# Altium integrated library Biblioteca Trincabotz (1).IntLib: 116 symbols
Pins are listed as number, name and electrical type; pins without a type are passive.

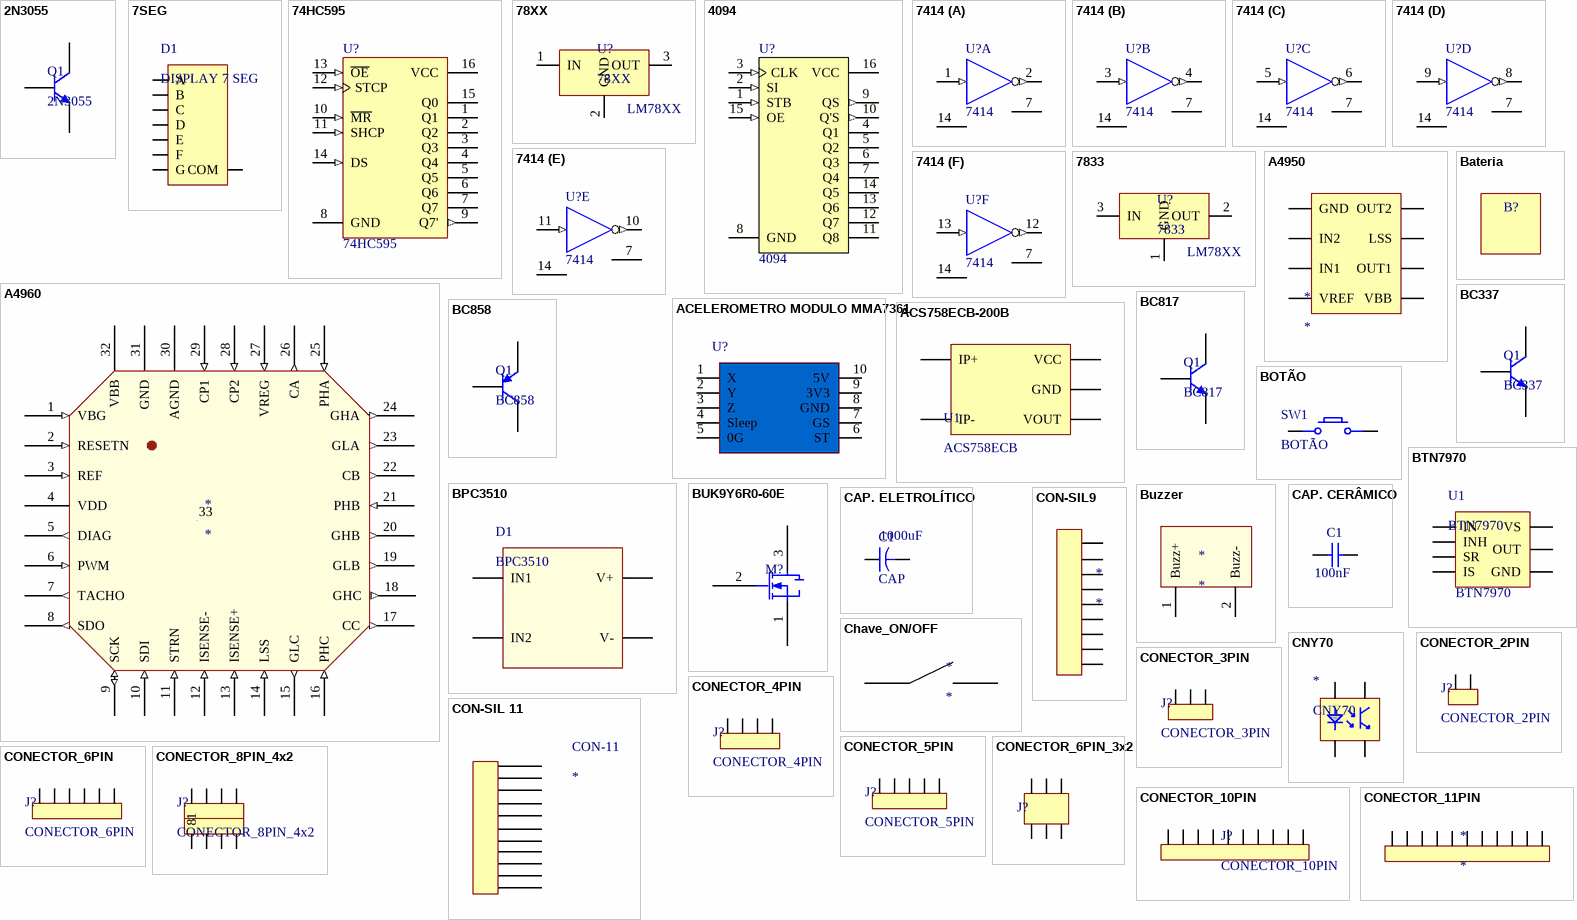
[diagram p0: symbols 2N3055 to CONECTOR_11PIN]

## 2N3055
designator Q1
Transistor NPN de potência
footprint TO-3 (Oval Flange Mount with (2) Offset Leads; Pin Spacing 10.92 mm; Lead Dia. 1.15 mm (max))
footprint TO-3_MOD
pins: 1 B, 2 E, 3 C

## 7SEG
designator D1, comment DISPLAY 7 SEG
Display de sete seguimentos
pins: 1 A, 2 B, 3 C, 4 D, 5 E, 6 F, 7 G, 8 COM

## 74HC595
designator U?
8 Bit Shift Register with Output Latches (3 STATE); Published: 8-Jun-2000; LatestRevisionDate: 06-Jun-2005; LatestRevisionNote: Stylized 3D Model Added.; DatasheetVersion: Apr-1993; PackageVersion: Apr-1996; PackageReference: DIP16; Publisher: Altium Limited; PackageDescription: DIP; 16 Leads; Row Spacing 7.62 mm; Pitch 2.54 mm; ComponentLink1Description: Manufacturer Link; ComponentLink1URL: http://www.st.com/; ComponentLink2Description: Datasheet; ComponentLink2URL: http://www.st.com/stonline/products/literature/ds/1989/m74hc595.pdf
footprint DIP16
pins: 1 Q1 (hiz), 2 Q2 (hiz), 3 Q3 (hiz), 4 Q4 (hiz), 5 Q5 (hiz), 6 Q6 (hiz), 7 Q7 (hiz), 8 GND (power), 9 Q7' (out), 10 ~{MR} (in), 11 SHCP (in), 12 STCP (in), 13 ~{OE} (in), 14 DS (in), 15 Q0 (hiz), 16 VCC (power)

## 78XX
designator U?
Regulador linear 1A
footprint TO220
footprint TO92
footprint SOT-223 (SOT223, 4-Leads, Body 6,50x7,00mm (avg), Pitch 2,30mm, IPC Medium Density)
footprint D2PAK-3
footprint DPAK
footprint SOT89 (SOT89, 3-Leads, Body 4.6x2.6 mm, Pitch 1.5mm, Lead Span 4.1mm, IPC Medium Density)
pins: 1 IN, 2 GND, 3 OUT
text: LM78XX

## 4094
designator U?
8 Bit SIPO Shift Latch Register (3-State)
footprint DIP16
pins: 1 STB (in), 2 SI (in), 3 CLK (in), 4 Q1 (hiz), 5 Q2 (hiz), 6 Q3 (hiz), 7 Q4 (hiz), 8 GND (power), 9 QS (out), 10 Q'S (out), 11 Q8 (hiz), 12 Q7 (hiz), 13 Q6 (hiz), 14 Q5 (hiz), 15 OE (in), 16 VCC (power)

## 7414
designator U?
Hex Schmitt-Trigger Inverter
footprint DIP14
pins on every part: 7 GND (power) hidden to GND, 14 VCC (power) hidden to VCC
part A pins: 1 A (in), 2 Y (out)
part B pins: 3 A (in), 4 Y (out)
part C pins: 5 A (in), 6 Y (out)
part D pins: 8 Y (out), 9 A (in)
part E pins: 10 Y (out), 11 A (in)
part F pins: 12 Y (out), 13 A (in)

## 7833
designator U?
Regulador linear 1A
footprint TO220
footprint TO92
footprint DPAK/3V3 (D2-PAK, 4-Leads, Body 8.8x10.4mm, Pitch 2.54mm, Lead Span 15.1mm, IPC Low Density)
footprint SOT89 (SOT89, 3-Leads, Body 4.6x2.6 mm, Pitch 1.5mm, Lead Span 4.1mm, IPC Medium Density)
pins: 1 GND, 2 OUT, 3 IN
text: LM78XX

## A4950
designator *
footprint SOICN8
footprint SOICN8-LJ
pins: 1 GND, 2 IN2, 3 IN1, 4 VREF, 5 VBB, 6 OUT1, 7 LSS, 8 OUT2

## A4960
designator *
footprint LQFP-32 (A4960)
pins: 1 VBG (in), 2 RESETN (in), 3 REF (in), 4 VDD (power), 5 DIAG (out), 6 PWM (in), 7 TACHO (out), 8 SDO (out), 9 SCK (io), 10 SDI (in), 11 STRN (in), 12 ISENSE- (in), 13 ISENSE+ (in), 14 LSS (in), 15 GLC (out), 16 PHC (in), 17 CC (out), 18 GHC (out), 19 GLB (out), 20 GHB (out), 21 PHB (in), 22 CB (out), 23 GLA (out), 24 GHA (out), 25 PHA (in), 26 CA (out), 27 VREG (in), 28 CP2 (in), 29 CP1 (in), 30 AGND (power), 31 GND (power), 32 VBB (power), 33 Thermal Pad "Terra"

## ACELEROMETRO MODULO MMA7361
designator U?, comment ACELEROMETRO MODULO  (value not drawn)
MMA7361; tensão de trabalho do módulo: 3,3 e 5V; sensibilidade: 800mv/g; corrente em espera: 3uA; corrente nominal: 400uA
footprint MOD. ACEL. LC STUDIO MMA7361
pins: 1 X, 2 Y, 3 Z, 4 Sleep, 5 0G, 6 ST, 7 GS, 8 GND, 9 3V3, 10 5V

## ACS758ECB-200B
designator U1, comment ACS758ECB
Sensor de efeito Hall; ACS758ECB-200B: *
footprint PFF
pins: 1 VCC, 2 GND, 3 VOUT, 4 IP+, 5 IP-

## Bateria
designator B?, comment 54,25 x 33,20 x 19,25  (value not drawn)
footprint Bat LiPo 3S 500mAh
footprint Mini (seguidor)
footprint Mini (turnigy)

## BC337
designator Q1
Transistor NPN de uso geral
footprint TO92; pin to pad 1>3 3>1
pins: 1 C, 2 B, 3 E

## BC817
designator Q1
Transistor NPN de uso geral SMD
footprint SOT23 (SOT23, 3-Leads, Body 2.9x1.3mm, Pitch 0.95mm, Lead Span 2.3mm - Reverse Pinning, IPC High Density); pin to pad 1>3 2>1 3>2
pins: 1 C, 2 B, 3 E

## BC858
designator Q1
footprint SOT23 (SOT23, 3-Leads, Body 2.9x1.3mm, Pitch 0.95mm, Lead Span 2.3mm - Reverse Pinning, IPC High Density); pin to pad 1>3 2>1 3>2
pins: 1 C, 2 B, 3 E

## BOTÃO
designator SW1
footprint SW_2
footprint SW_4
pins: 1, 2

## BPC3510
designator D1
Ponte integrada de diodos retificadores
footprint KBPC-P
pins: 1 IN1, 2 IN2, 3 V+, 4 V-

## BTN7970
designator U1
Circuito Integrado de meia ponte
footprint TO-263-7-1
pins: 1 GND, 2 IN, 3 INH, 4 OUT, 5 SR, 6 IS, 7 VS

## BUK9Y6R0-60E
designator M?
MOSFET LFPAK56
footprint SOT669 - BUK9Y6R0
pins: 1 SOURCE, 2 GATE, 3 DRAIN

## Buzzer
designator *
footprint Buzzer
pins: 1 Buzz+, 2 Buzz-

## CAP. CERÂMICO
designator C1, comment Valor: 100nF  (hidden comment: CAP)
Capacitor; Criador por: Luigi Eduardo; Pertence a: Trincabotz; Criado em: 26/06/2012
footprint CAP 0805 (0805)
footprint CAP CER.100
footprint 1206
footprint 0603
pins: 1, 2

## CAP. ELETROLÍTICO
designator C1, comment CAP  Valor: 1000uF
Capacitor
footprint CAP ELET .300
footprint CAP ELET .100
footprint CAP ELET .300 -  Deitado
footprint CAP ELETRO. SMD SIZE B (Aluminum Electrolytic Capacitor - Body 4x4x4mm)
footprint CAP ELETRO. SMD SIZE D8 (Aluminum Electrolytic Capacitor - Body 6,50x6,50x8,00mm)
footprint CAP Deitado 16 x 25
footprint CAP ELETRO. SMD SIZE G (Aluminum Electrolytic Capacitor - Body 10x10x10,5mm)
footprint CAP ELETRO. TH DEITADO 12.5X22mm
footprint CAP ELETRO. TH DEITADO 12.5mmx25mm
footprint CAP ELETRO. TH Deitado 16x27
footprint CAP ELETRO. TH DEITADO 18x31.5mm
pins: 1, 2

## Chave_ON/OFF
designator *
pins: 1, 2

## CNY70
designator *
footprint CNY70
pins: 1 E, 2 A, 3 C, 4 K

## CON-SIL9
designator *
footprint CON-SIL 9
pins: 1, 2, 3, 4, 5, 6, 7, 8, 9

## CON-SIL 11
designator CON-11
pins: 1, 2, 3, 4, 5, 6, 7, 8, 9, 10, 11

## CONECTOR_2PIN
designator J?
footprint CON2
footprint CON2_SMD
footprint CON2_SEM PINOS
pins: 1, 2

## CONECTOR_3PIN
designator J?
footprint CON3
footprint CON3_SMD
footprint CON3_SEM PINOS
pins: 1, 2, 3

## CONECTOR_4PIN
designator J?
footprint CON4
pins: 1, 2, 3, 4

## CONECTOR_5PIN
designator J?
footprint CON5
pins: 1, 2, 3, 4, 5

## CONECTOR_6PIN
designator J?
footprint CON6
pins: 1, 2, 3, 4, 5, 6

## CONECTOR_6PIN_3x2
designator J?  (value not drawn)
footprint CON6_3x2
pins: 1, 2, 3, 4, 5, 6

## CONECTOR_8PIN_4x2
designator J?
footprint CON8 - 4x2
pins: 1, 2, 3, 4, 5, 6, 7, 8

## CONECTOR_10PIN
designator J?
footprint CON10
pins: 1, 2, 3, 4, 5, 6, 7, 8, 9, 10

## CONECTOR_11PIN
designator *
footprint CONECTOR_11PIN
pins: 1, 2, 3, 4, 5, 6, 7, 8, 9, 10, 11

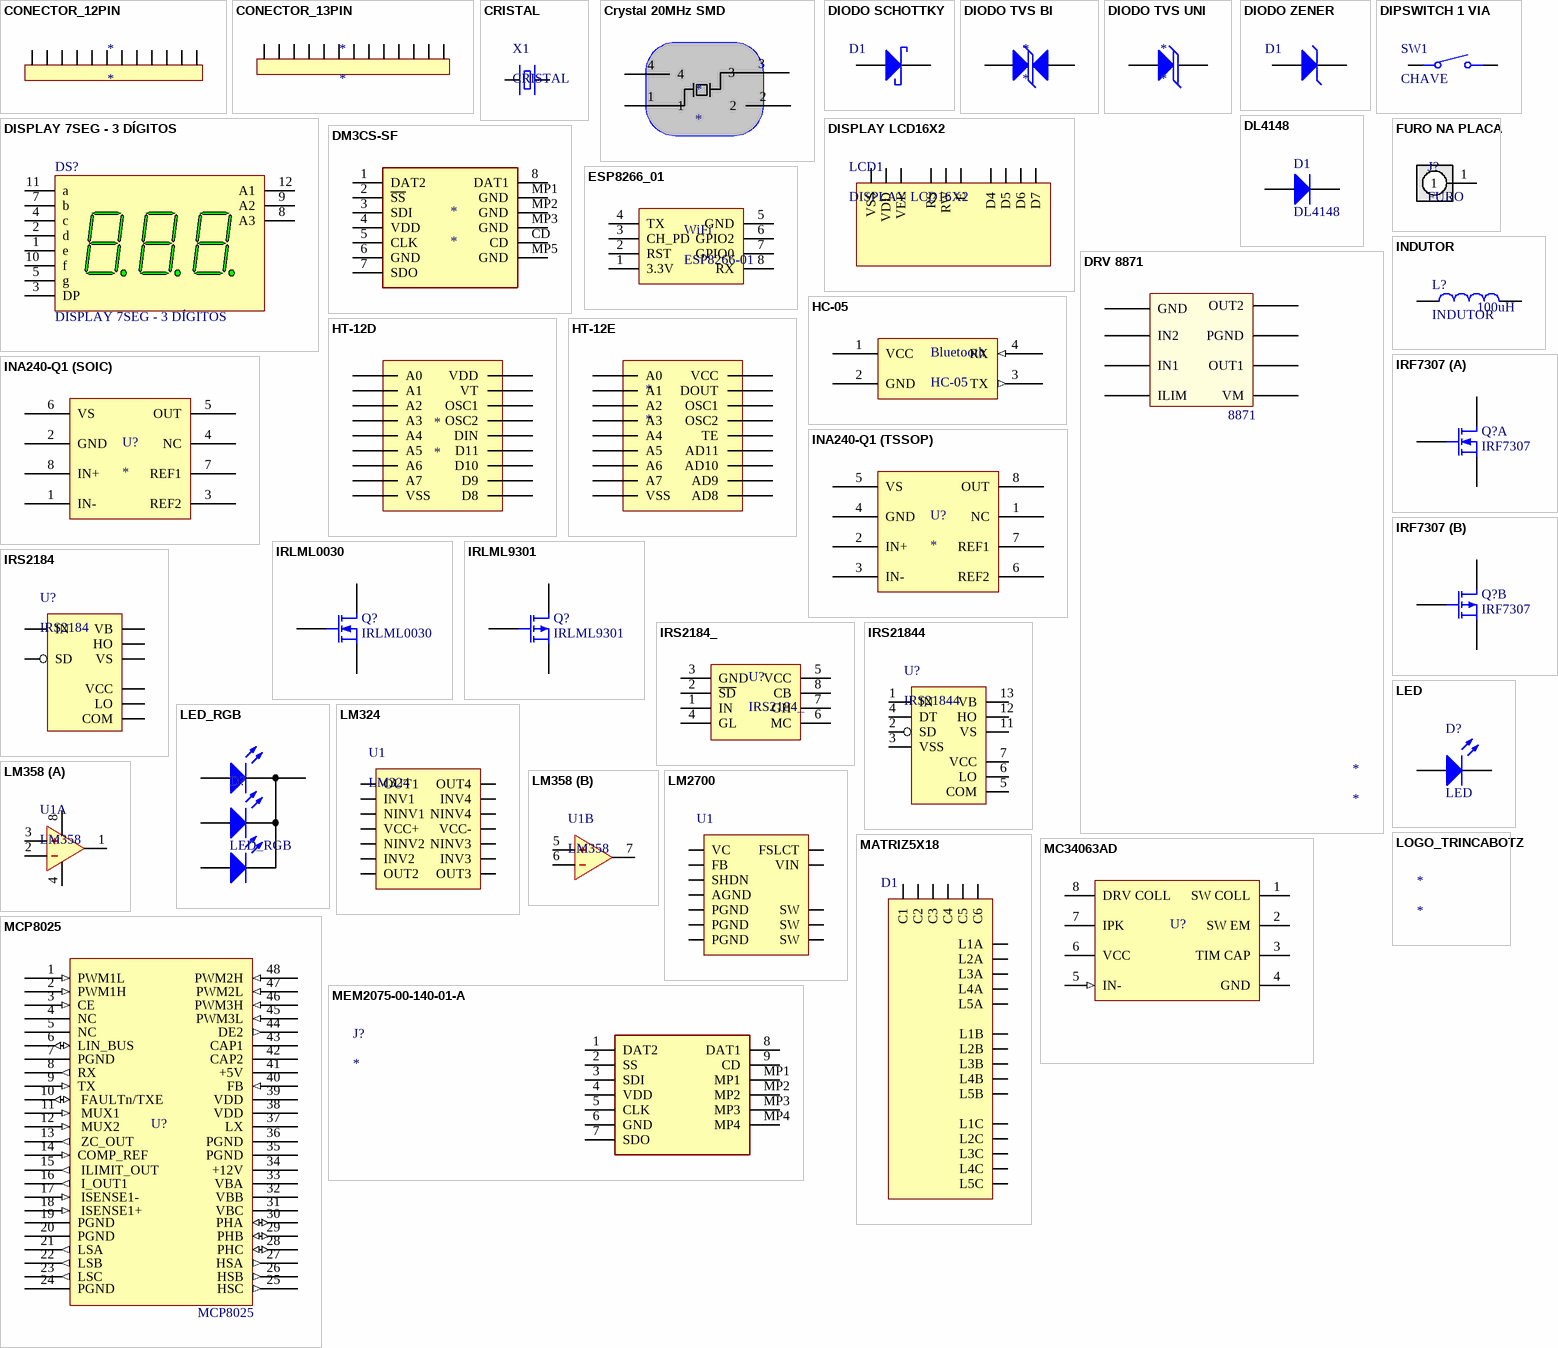
[diagram p1: symbols CONECTOR_12PIN to MEM2075-00-140-01-A]

## CONECTOR_12PIN
designator *
footprint CONECTOR_12PIN
pins: 1, 2, 3, 4, 5, 6, 7, 8, 9, 10, 11, 12

## CONECTOR_13PIN
designator *
footprint CONECTOR_13PIN
pins: 1, 2, 3, 4, 5, 6, 7, 8, 9, 10, 11, 12, 13

## CRISTAL
designator X1
footprint CRISTAL
footprint CRISTAL SMD (Quartz Crystal, SM; 2 Leads; Body 11.4 x 4.8 x 5 mm (LxWxH))
pins: 1, 2

## Crystal 20MHz SMD
designator *
footprint Crystal 20MHz SMD
pins: 1, 2, 3, 4

## DIODO SCHOTTKY
designator D1  (value not drawn)
Diodo
footprint DO-214AC
footprint SOD-123
footprint DO-201AD (Diode, Axial; Body 9.5 x 5.6 mm (LxDia. max), Lead Dia. 1.32 mm (max))
pins: 1 A, 2 K

## DIODO TVS BI
designator *
Diodo TVS Bidirecional
footprint DO-214AB
footprint DO-214AC
pins: 1 A, 2 K

## DIODO TVS UNI
designator *
Diodo TVS Unidirecional
pins: 1 A, 2 K

## DIODO ZENER
designator D1  (value not drawn)
Diodo
footprint DIODO ZENER
footprint MINIELF
pins: 1 A, 2 K

## DIPSWITCH 1 VIA
designator SW1, comment CHAVE
footprint DIPSWITCH1WAY
pins: 1, 2

## DISPLAY 7SEG - 3 DÍGITOS
designator DS?
Display de 7 segmentos, anodo comum
footprint DISPLAY_SEG_3DIGITOS
pins: 1 e "Digits (1-3) e Cathode", 2 d "Digits (1-3) d Cathode", 3 DP "DP Cathode", 4 c "Digits (1-3) c Cathode", 5 g "Digits (1-3) g Cathode", 7 b "Digits (1-3) b Cathode", 8 A3 "Common Anode3", 9 A2 "Common Anode2", 10 f "Digits (1-3) f Cathode", 11 a "Digits (1-3) a Cathode", 12 A1 "Common Anode1"

## DISPLAY LCD16X2
designator LCD1
footprint LCD16x2
pins: 1 VSS, 2 VDD, 3 VEE, 4 RS, 5 RW, 6 E, 11 D4, 12 D5, 13 D6, 14 D7

## DL4148
designator D1
Diodo de silício SMD
footprint MINIELF
pins: 1 A, 2 K

## DM3CS-SF
designator *
footprint DM3CS-SF
pins: 1 DAT2, 2 ~{SS}, 3 SDI, 4 VDD, 5 CLK, 6 GND, 7 SDO, 8 DAT1, CD, MP1 GND, MP2 GND, MP3 GND, MP5 GND

## DRV 8871
designator *
footprint DRV-8871 (SOIC, 8-Leads, Body 4,90x3,90mm, Pitch 1,27mm, Thermal Pad 3,10x2,40mm, IPC Medium Density)
pins: 1 GND, 2 IN2, 3 IN1, 4 ILIM, 5 VM (power), 6 OUT1, 7 PGND, 8 OUT2
text: 8871

## ESP8266_01
designator WiFi, comment ESP8266-01
Módulo de Comunicação WiFi ESP8266-01
footprint CON8 - 4x2 - Female
pins: 1 3.3V, 2 RST, 3 CH_PD, 4 TX, 5 GND, 6 GPIO2, 7 GPIO0, 8 RX

## FURO NA PLACA
designator J?, comment FURO
Criado por: Luigi Eduardo; Pertence a: Trincabotz CEFET-MG; Criado em: 26/06/2012
footprint FURO_4MM
footprint FURO_2MM
footprint FURO_3,5MM
footprint FURO_3MM
footprint FURO_2,5MM
footprint FURO_1MM
pins: 1

## HC-05
designator Bluetooth
Módulo Bluetooth
footprint CON FEMEA 1x4
footprint CON FEMEA 1x4 C/ HC-05
pins: 1 VCC (power) "Alimentação", 2 GND (power) "Alimentação", 3 TX (out) "Alimentação", 4 RX (in) "Alimentação"

## HT-12D
designator *
footprint PDIP300-P18 (DIP, 18-Leads, Row Spacing 7.62mm, Pitch 2.54mm, Body 22.9x6.6mm)
pins: 1 A0, 2 A1, 3 A2, 4 A3, 5 A4, 6 A5, 7 A6, 8 A7, 9 VSS, 10 D8, 11 D9, 12 D10, 13 D11, 14 DIN, 15 OSC2, 16 OSC1, 17 VT, 18 VDD

## HT-12E
designator *
footprint PDIP300-P18 (DIP, 18-Leads, Row Spacing 7.62mm, Pitch 2.54mm, Body 22.9x6.6mm)
pins: 1 A0, 2 A1, 3 A2, 4 A3, 5 A4, 6 A5, 7 A6, 8 A7, 9 VSS, 10 AD8, 11 AD9, 12 AD10, 13 AD11, 14 TE, 15 OSC2, 16 OSC1, 17 DOUT, 18 VCC

## INA240-Q1 (SOIC)
designator U?
Amplificador de sensor de corrente com rejeição de PWM, 5V
footprint SOIC-8 (SOIC, 8-Leads, Body 8.6x3.9mm, Pitch 1.27mm)
pins: 1 IN-, 2 GND, 3 REF2, 4 NC, 5 OUT, 6 VS, 7 REF1, 8 IN+

## INA240-Q1 (TSSOP)
designator U?
Amplificador de sensor de corrente com rejeição de PWM, 5V
footprint TSSOP-8 (TSSOP, 8-Leads, Body 3,00x4,40mm, Pitch 0,65mm, IPC Medium Density)
pins: 1 NC, 2 IN+, 3 IN-, 4 GND, 5 VS, 6 REF2, 7 REF1, 8 OUT

## INDUTOR
designator L?  Indutância: 100uH
footprint INDC2520X12N (Chip Inductor, 2-Leads, Body 2.50x2.00mm, IPC Medium Density)
footprint INDUTOR SMD SRR1260 (Indutor SMD 12,50x12,50X6,5mm)
footprint Indutor Athena
footprint INDUTOR SMD ZEUS (Indutor SMD 7.3x7.3x5mmm Murata 220uH)
footprint INDUTOR SMD SRR1210 (Indutor SMD Bourns 12x12x10mm)
pins: 1, 2

## IRF7307
designator Q?
P-N MOSFETS
footprint SO8 (Small Outline; 8 Leads; Body Width 3.9 mm; Pitch 1.27 mm)
part A pins: 1 S1, 2 G1, 7, 8 D1
part B pins: 3 S2, 4 G2, 5, 6 D2

## IRLML0030
designator Q?
N MOSFET
footprint SOT23 (SOT23, 3-Leads, Body 2.9x1.3mm, Pitch 0.95mm, Lead Span 2.3mm - Reverse Pinning, IPC High Density)
pins: 1 G, 2 S, 3 D

## IRLML9301
designator Q?
P MOSFET
footprint SOT23 (SOT23, 3-Leads, Body 2.9x1.3mm, Pitch 0.95mm, Lead Span 2.3mm - Reverse Pinning, IPC High Density)
pins: 1 G, 2 S, 3 D

## IRS2184
designator U?
Driver para meia ponte
footprint SOIC-8 (SOIC, 14-Leads, Body 8.6x3.9mm, Pitch 1.27mm)
footprint DIP8 (DIP; 8 Leads; Row Spacing 7.62 mm; Pitch 2.54 mm)
pins: 1 IN, 2 SD, 3 COM, 4 LO, 5 VCC, 6 VS, 7 HO, 8 VB

## IRS2184_
designator U?
Driver para meia ponte
footprint SOIC-8 (SOIC, 14-Leads, Body 8.6x3.9mm, Pitch 1.27mm)
footprint DIP8 (DIP; 8 Leads; Row Spacing 7.62 mm; Pitch 2.54 mm)
pins: 1 IN, 2 ~{SD}, 3 GND, 4 GL, 5 VCC, 6 MC, 7 GH, 8 CB

## IRS21844
designator U?
Driver para meia ponte
footprint SOIC-14 (SOIC, 14-Leads, Body 8.6x3.9mm, Pitch 1.27mm)
pins: 1 IN, 2 SD, 3 VSS, 4 DT, 5 COM, 6 LO, 7 VCC, 11 VS, 12 HO, 13 VB

## LED
designator D?
footprint LED 0805 (0805)
footprint LED THD
pins: 1 A, 2 K

## LED_RGB
designator D?
footprint LED_RGB_5MM
pins: 1 A, 2 A, 3 K, 4 A

## LM324
designator U1
footprint SOIC-14 (SOIC, 14-Leads, Body 8.6x3.9mm, Pitch 1.27mm)
footprint DIP14
pins: 1 OUT1, 2 INV1, 3 NINV1, 4 VCC+, 5 NINV2, 6 INV2, 7 OUT2, 8 OUT3, 9 INV3, 10 NINV3, 11 VCC-, 12 NINV4, 13 INV4, 14 OUT4

## LM358
designator U1
footprint DIP8 (DIP; 8 Leads; Row Spacing 7.62 mm; Pitch 2.54 mm)
footprint SO8 (Small Outline; 8 Leads; Body Width 3.9 mm; Pitch 1.27 mm)
part A pins: 1, 2, 3, 4, 8
part B pins: 5, 6, 7

## LM2700
designator U1  (value not drawn)
footprint TSSOP14
pins: 1 VC, 2 FB, 3 SHDN, 4 AGND, 5 PGND, 6 PGND, 7 PGND, 8 SW, 9 SW, 10 SW, 12 VIN, 13 FSLCT

## LOGO_TRINCABOTZ
designator *
footprint LOGO_TRINCABOTZ

## MATRIZ5X18
designator D1  (value not drawn)
Matriz de LEDs
footprint MATRIX 5x18 (0805)
pins: 1 C1, 2 C2, 3 C3, 4 C4, 5 C5, 6 C6, 7 L1A, 8 L2A, 9 L3A, 10 L4A, 11 L5A, 12 L1B, 13 L2B, 14 L3B, 15 L4B, 16 L5B, 17 L1C, 18 L2C, 19 L3C, 20 L4C, 21 L5C

## MC34063AD
designator U?
DC-to-DC Converter Control Circuit; Published: 15-Apr-2002; LatestRevisionDate: 13-Apr-2006; LatestRevisionNote: IPC-7351 Footprint Added.; DatasheetVersion: 1996; PackageVersion: 1998; PackageReference: 751-05; Publisher: Altium Limited; PackageDescription: 8-Pin Small Outline Integrated Circuit 1.27 mm Pitch; Code_JEDEC: MS-012-AA; Code_IPC: SOIC127P600-8; ComponentLink1Description: Manufacturer Link; ComponentLink1URL: http://www.onsemi.com/site/products/taxonomy/0,4438,503,00.html; ComponentLink2Description: Datasheet; ComponentLink2URL: http://www.onsemi.com/pub/Collateral/MC34063A-D.PDF
footprint DIP8 (DIP; 8 Leads; Row Spacing 7.62 mm; Pitch 2.54 mm)
footprint SOIC-8 (SOIC, 8-Leads, Body 8.6x3.9mm, Pitch 1.27mm)
pins: 1 SW COLL, 2 SW EM, 3 TIM CAP, 4 GND (power), 5 IN- (in), 6 VCC (power), 7 IPK, 8 DRV COLL (oc)

## MCP8025
designator U?
3-Phase Driver w/ Phase Detect & LIN Communication
footprint TQFP-48 (TQFP, 48-Leads, Body 7,00x7,00mm, Pitch 0,50mm, Thermal Pad 3,50x3,50mm, IPC Medium Density)
pins: 1 PWM1L (in), 2 PWM1H (in), 3 CE (in), 4 NC, 5 NC, 6 LIN_BUS (io), 7 PGND  (power), 8 RX (out), 9 TX (in), 10  FAULTn/TXE (io), 11  MUX1 (in), 12  MUX2 (in), 13  ZC_OUT (out), 14 COMP_REF (in), 15  ILIMIT_OUT (out), 16  I_OUT1 (out), 17  ISENSE1- (in), 18  ISENSE1+ (in), 19 PGND (power), 20 PGND (power), 21 LSA (out), 22 LSB (out), 23 LSC (out), 24 PGND (power), 25 HSC (out), 26 HSB (out), 27 HSA (out), 28 PHC (io), 29 PHB (io), 30 PHA (io), 31 VBC (power), 32 VBB (power), 33 VBA (power), 34 +12V (power), 35 PGND (power), 36 PGND (power), 37 LX (power), 38 VDD (power), 39 VDD (power), 40 FB (in), 41 +5V (power), 42 CAP2 (power), 43 CAP1 (power), 44 DE2 (out), 45 PWM3L (in), 46 PWM3H (in), 47 PWM2L (in), 48 PWM2H (in), 49 PGND hidden

## MEM2075-00-140-01-A
designator J?
Connector; Manufacturer_Name: GCT (GLOBAL CONNECTOR TECHNOLOGY); Manufacturer_Part_Number: MEM2075-00-140-01-A; Datasheet Link: http://www.farnell.com/cad/2606866.pdf; Height: 1.45mm; Mouser Part Number: 640-MEM20750014001A; Mouser Price/Stock: https://www.mouser.co.uk/ProductDetail/GCT/MEM2075-00-140-01-A?qs=KUoIvG%2F9IlZvfWpeERlq3Q%3D%3D
footprint MEM2075
pins: 1 DAT2, 2 SS, 3 SDI, 4 VDD, 5 CLK, 6 GND, 7 SDO, 8 DAT1, 9 CD, MP1, MP2, MP3, MP4

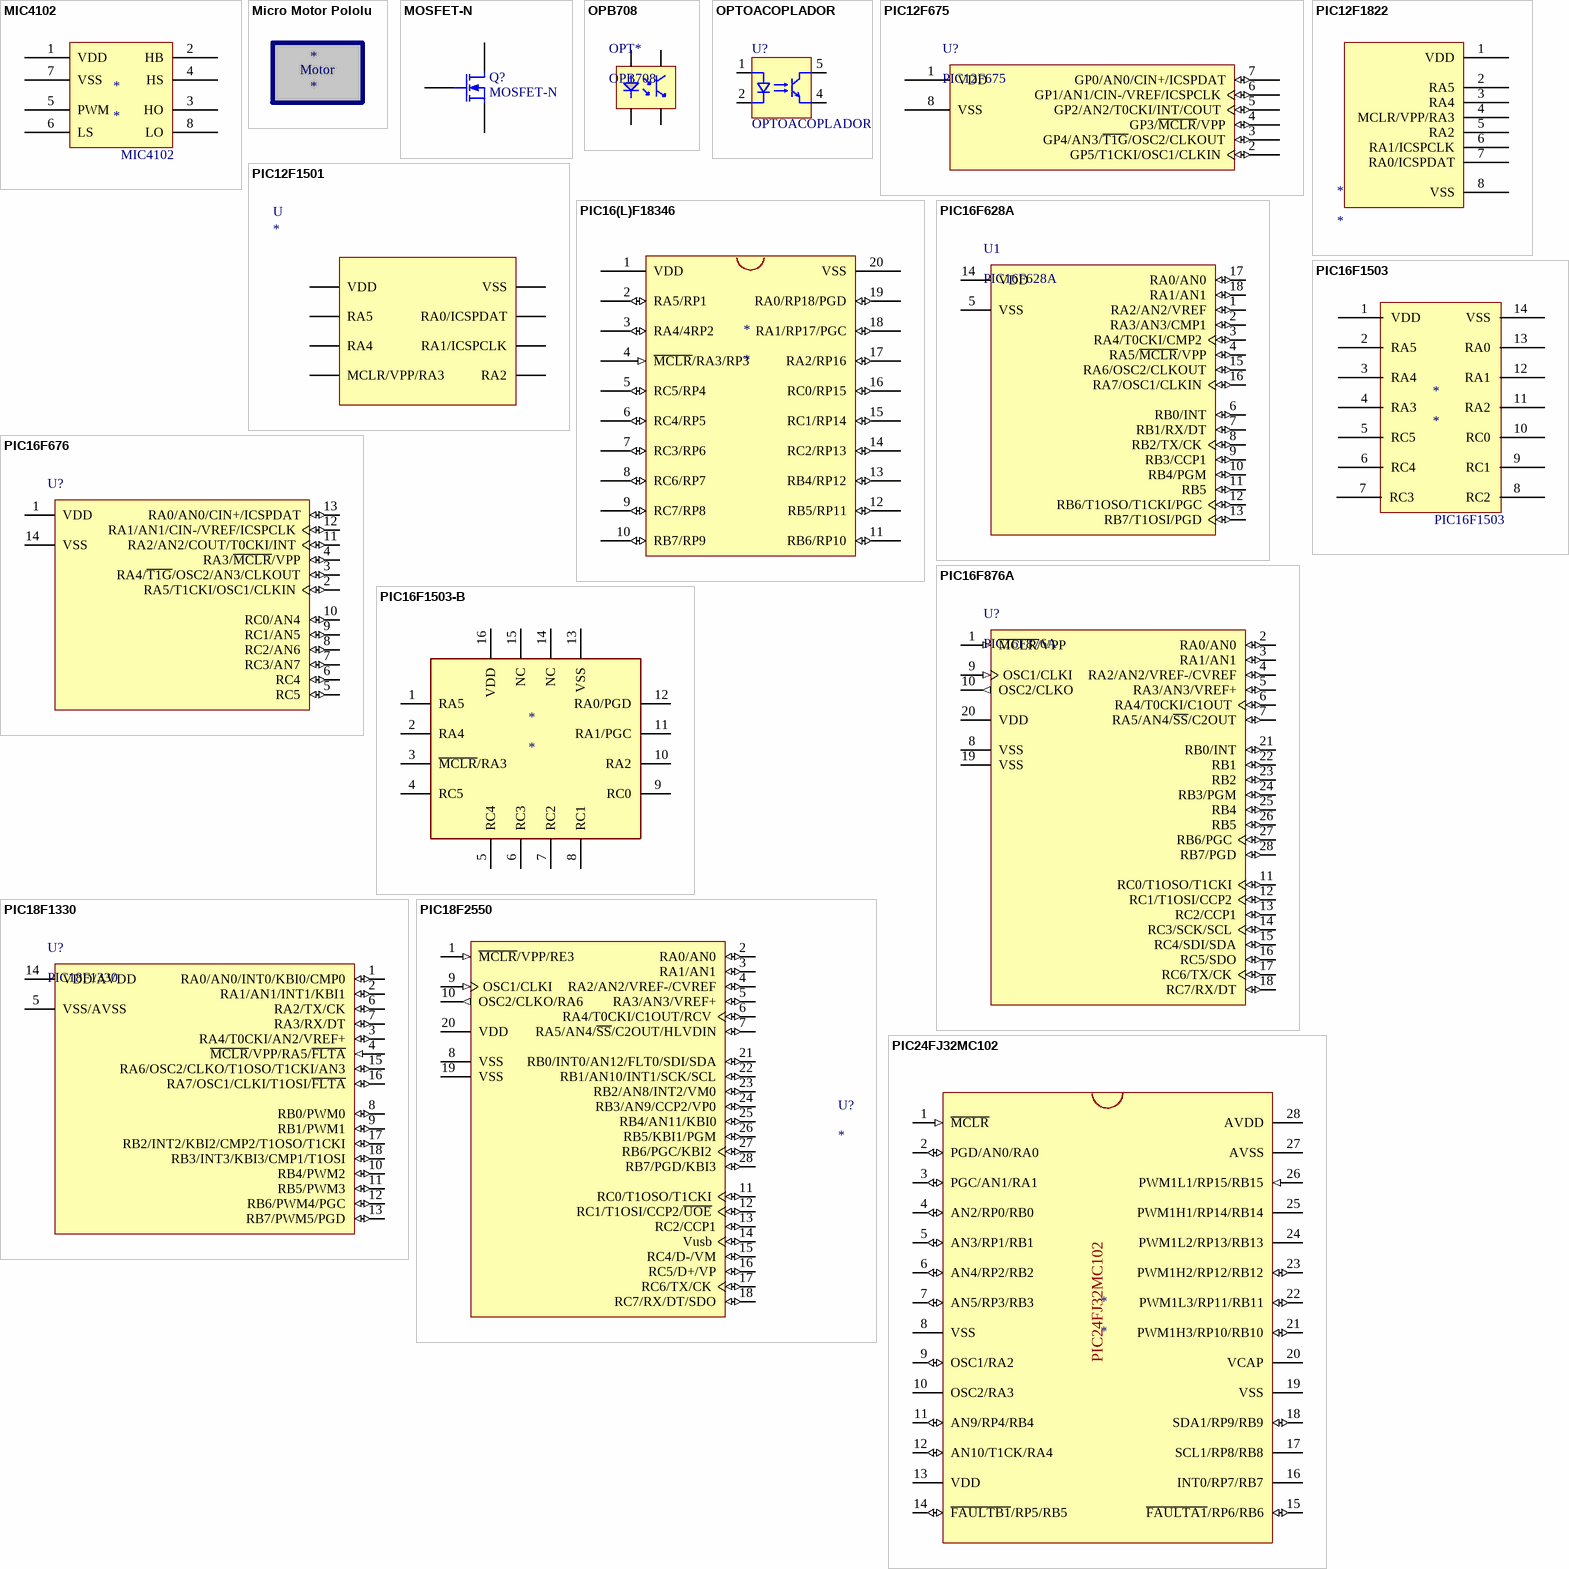
[diagram p2: symbols MIC4102 to PIC24FJ32MC102]

## MIC4102
designator *
Driver de Meia-Ponte
footprint SOIC-8 (SOIC, 14-Leads, Body 8.6x3.9mm, Pitch 1.27mm)
pins: 1 VDD, 2 HB, 3 HO, 4 HS, 5 PWM, 6 LS, 7 VSS, 8 LO

## Micro Motor Pololu
designator *
footprint Micro Motor Polulo (Micromotor, Bracket, Wheel 32x7mm)
text: Motor

## MOSFET-N
designator Q?
N-Channel MOSFET
footprint D2PAK7
footprint SOT23 (SOT23, 3-Leads, Body 2.9x1.3mm, Pitch 0.95mm, Lead Span 2.3mm - Reverse Pinning, IPC High Density)
footprint TO220
footprint D2PAK-2S
footprint SOT669
footprint SOT-23 (SOT23, 3-Leads, Body 2,90x2,30mm (avg), Pitch 1,90mm, IPC Medium Density)
footprint SOT23 MOSFET (SOT23, 3-Leads, Body 2.9x1.3mm, Pitch 0.95mm, Lead Span 2.3mm - Reverse Pinning, IPC High Density)
footprint PG-HSOF-8
pins: 1 G, 2 D, 3 S

## OPB708
designator OPT*
footprint OPB708
pins: 1 A, 2 K, 3 E, 4 C

## OPTOACOPLADOR
designator U?
footprint DIP6 (DIP; 8 Leads; Row Spacing 7.62 mm; Pitch 2.54 mm)
pins: 1 A, 2 K, 4 E, 5 C

## PIC12F675
designator U?
footprint DIP8 (DIP; 8 Leads; Row Spacing 7.62 mm; Pitch 2.54 mm)
footprint SOIC-8 (SOIC, 14-Leads, Body 8.6x3.9mm, Pitch 1.27mm)
pins: 1 VDD (power), 2 GP5/T1CKI/OSC1/CLKIN (io), 3 GP4/AN3/~{T1G}/OSC2/CLKOUT (io), 4 GP3/~{MCLR}/VPP (io), 5 GP2/AN2/T0CKI/INT/COUT (io), 6 GP1/AN1/CIN-/VREF/ICSPCLK (io), 7 GP0/AN0/CIN+/ICSPDAT (io), 8 VSS (power)

## PIC12F1501
designator U
footprint SOIC-8 (SOIC, 14-Leads, Body 8.6x3.9mm, Pitch 1.27mm)
footprint SOIC-8 (SOIC, 14-Leads, Body 8.6x3.9mm, Pitch 1.27mm)
pins: 1 VDD, 2 RA5, 3 RA4, 4 MCLR/VPP/RA3, 5 RA2, 6 RA1/ICSPCLK, 7 RA0/ICSPDAT, 8 VSS

## PIC12F1822
designator *
footprint SOIC127P600X175-8N (SOIC, 8-Leads, Body 4,90x3,90mm, Pitch 1,27mm, IPC Medium Density)
footprint SOIC127P600X175-8N (SOIC, 8-Leads, Body 4,90x3,90mm, Pitch 1,27mm, IPC Medium Density)
pins: 1 VDD, 2 RA5, 3 RA4, 4 MCLR/VPP/RA3, 5 RA2, 6 RA1/ICSPCLK, 7 RA0/ICSPDAT, 8 VSS

## PIC16(L)F18346
designator *
footprint SOIC-20 (SOIC, 20-Leads, Body 12.80x7.50mm, Pitch 1.27mm, IPC Medium Density)
pins: 1 VDD, 2 RA5/RP1 (io), 3 RA4/4RP2 (io), 4 ~{MCLR}/RA3/RP3 (in), 5 RC5/RP4 (io), 6 RC4/RP5 (io), 7 RC3/RP6 (io), 8 RC6/RP7 (io), 9 RC7/RP8 (io), 10 RB7/RP9 (io), 11 RB6/RP10 (io), 12 RB5/RP11 (io), 13 RB4/RP12 (io), 14 RC2/RP13 (io), 15 RC1/RP14 (io), 16 RC0/RP15 (io), 17 RA2/RP16 (io), 18 RA1/RP17/PGC (io), 19 RA0/RP18/PGD (io), 20 VSS

## PIC16F628A
designator U1
footprint PDIP300-P18 (DIP, 18-Leads, Row Spacing 7.62mm, Pitch 2.54mm, Body 22.9x6.6mm)
pins: 1 RA2/AN2/VREF (io), 2 RA3/AN3/CMP1 (io), 3 RA4/T0CKI/CMP2 (io), 4 RA5/~{MCLR}/VPP (io), 5 VSS (power), 6 RB0/INT (io), 7 RB1/RX/DT (io), 8 RB2/TX/CK (io), 9 RB3/CCP1 (io), 10 RB4/PGM (io), 11 RB5 (io), 12 RB6/T1OSO/T1CKI/PGC (io), 13 RB7/T1OSI/PGD (io), 14 VDD (power), 15 RA6/OSC2/CLKOUT (io), 16 RA7/OSC1/CLKIN (io), 17 RA0/AN0 (io), 18 RA1/AN1 (io)

## PIC16F676
designator U?  (value not drawn)
FLASH-Based 8-Bit CMOS Microcontroller, 10-Bit A/D, 1K (x14-Bit words) FLASH, 64 Bytes SRAM, 14-Pin SOIC; Supplier Part Number 1: PIC16F676-I/SL-ND
footprint SOIC-14 (SOIC, 14-Leads, Body 8.6x3.9mm, Pitch 1.27mm)
pins: 1 VDD (power), 2 RA5/T1CKI/OSC1/CLKIN (io), 3 RA4/~{T1G}/OSC2/AN3/CLKOUT (io), 4 RA3/~{MCLR}/VPP (io), 5 RC5 (io), 6 RC4 (io), 7 RC3/AN7 (io), 8 RC2/AN6 (io), 9 RC1/AN5 (io), 10 RC0/AN4 (io), 11 RA2/AN2/COUT/T0CKI/INT (io), 12 RA1/AN1/CIN-/VREF/ICSPCLK (io), 13 RA0/AN0/CIN+/ICSPDAT (io), 14 VSS (power)

## PIC16F876A
designator U?
footprint SOIC-28
pins: 1 ~{MCLR}/VPP (in), 2 RA0/AN0 (io), 3 RA1/AN1 (io), 4 RA2/AN2/VREF-/CVREF (io), 5 RA3/AN3/VREF+ (io), 6 RA4/T0CKI/C1OUT (io), 7 RA5/AN4/~{SS}/C2OUT (io), 8 VSS (power), 9 OSC1/CLKI (in), 10 OSC2/CLKO (out), 11 RC0/T1OSO/T1CKI (io), 12 RC1/T1OSI/CCP2 (io), 13 RC2/CCP1 (io), 14 RC3/SCK/SCL (io), 15 RC4/SDI/SDA (io), 16 RC5/SDO (io), 17 RC6/TX/CK (io), 18 RC7/RX/DT (io), 19 VSS (power), 20 VDD (power), 21 RB0/INT (io), 22 RB1 (io), 23 RB2 (io), 24 RB3/PGM (io), 25 RB4 (io), 26 RB5 (io), 27 RB6/PGC (io), 28 RB7/PGD (io)

## PIC16F1503
designator *
footprint PIC16F1503 (SOIC, 14-Leads, Body 8,65x3,90mm, Pitch 1,27mm, IPC Medium Density)
footprint QFN-16
pins: 1 VDD, 2 RA5, 3 RA4, 4 RA3, 5 RC5, 6 RC4, 7 RC3, 8 RC2, 9 RC1, 10 RC0, 11 RA2, 12 RA1, 13 RA0, 14 VSS

## PIC16F1503-B
designator *
footprint QFN-16
pins: 1 RA5, 2 RA4, 3 ~{MCLR}/RA3, 4 RC5, 5 RC4, 6 RC3, 7 RC2, 8 RC1, 9 RC0, 10 RA2, 11 RA1/PGC, 12 RA0/PGD, 13 VSS, 14 NC, 15 NC, 16 VDD

## PIC18F1330
designator U?
footprint PDIP300-P18 (DIP, 18-Leads, Row Spacing 7.62mm, Pitch 2.54mm, Body 22.9x6.6mm)
footprint SOIC-18
footprint PDIP-18 c/ Socket
pins: 1 RA0/AN0/INT0/KBI0/CMP0 (io), 2 RA1/AN1/INT1/KBI1 (io), 3 RA4/T0CKI/AN2/VREF+ (io), 4 ~{MCLR}/VPP/RA5/~{FLTA} (in), 5 VSS/AVSS (power), 6 RA2/TX/CK (io), 7 RA3/RX/DT (io), 8 RB0/PWM0 (io), 9 RB1/PWM1 (io), 10 RB4/PWM2 (io), 11 RB5/PWM3 (io), 12 RB6/PWM4/PGC (io), 13 RB7/PWM5/PGD (io), 14 VDD/AVDD (power), 15 RA6/OSC2/CLKO/T1OSO/T1CKI/AN3 (io), 16 RA7/OSC1/CLKI/T1OSI/~{FLTA} (io), 17 RB2/INT2/KBI2/CMP2/T1OSO/T1CKI (io), 18 RB3/INT3/KBI3/CMP1/T1OSI (io)

## PIC18F2550
designator U?
footprint DIPN-28
footprint SOIC-28
pins: 1 ~{MCLR}/VPP/RE3 (in), 2 RA0/AN0 (io), 3 RA1/AN1 (io), 4 RA2/AN2/VREF-/CVREF (io), 5 RA3/AN3/VREF+ (io), 6 RA4/T0CKI/C1OUT/RCV (io), 7 RA5/AN4/~{SS}/C2OUT/HLVDIN (io), 8 VSS (power), 9 OSC1/CLKI (in), 10 OSC2/CLKO/RA6 (out), 11 RC0/T1OSO/T1CKI (io), 12 RC1/T1OSI/CCP2/~{UOE} (io), 13 RC2/CCP1 (io), 14 Vusb (io), 15 RC4/D-/VM (io), 16 RC5/D+/VP (io), 17 RC6/TX/CK (io), 18 RC7/RX/DT/SDO (io), 19 VSS (power), 20 VDD (power), 21 RB0/INT0/AN12/FLT0/SDI/SDA (io), 22 RB1/AN10/INT1/SCK/SCL (io), 23 RB2/AN8/INT2/VM0 (io), 24 RB3/AN9/CCP2/VP0 (io), 25 RB4/AN11/KBI0 (io), 26 RB5/KBI1/PGM (io), 27 RB6/PGC/KBI2 (io), 28 RB7/PGD/KBI3 (io)

## PIC24FJ32MC102
designator *
footprint SSOP-28
footprint SOIC-28 (28 Pads; 11,9mm x 18,6 mm)
pins: 1 ~{MCLR} (in), 2 PGD/AN0/RA0 (io), 3 PGC/AN1/RA1 (io), 4 AN2/RP0/RB0 (io), 5 AN3/RP1/RB1 (io), 6 AN4/RP2/RB2 (io), 7 AN5/RP3/RB3 (io), 8 VSS (power), 9 OSC1/RA2 (io), 10 OSC2/RA3 (power), 11 AN9/RP4/RB4 (io), 12 AN10/T1CK/RA4 (io), 13 VDD (power), 14 ~{FAULTB1}/RP5/RB5 (io), 15 ~{FAULTA1}/RP6/RB6 (io), 16 INT0/RP7/RB7 (power), 17 SCL1/RP8/RB8, 18 SDA1/RP9/RB9 (io), 19 VSS (power), 20 VCAP (power), 21 PWM1H3/RP10/RB10 (io), 22 PWM1L3/RP11/RB11 (io), 23 PWM1H2/RP12/RB12 (io), 24 PWM1L2/RP13/RB13 (power), 25 PWM1H1/RP14/RB14 (power), 26 PWM1L1/RP15/RB15 (in), 27 AVSS (power), 28 AVDD (power)

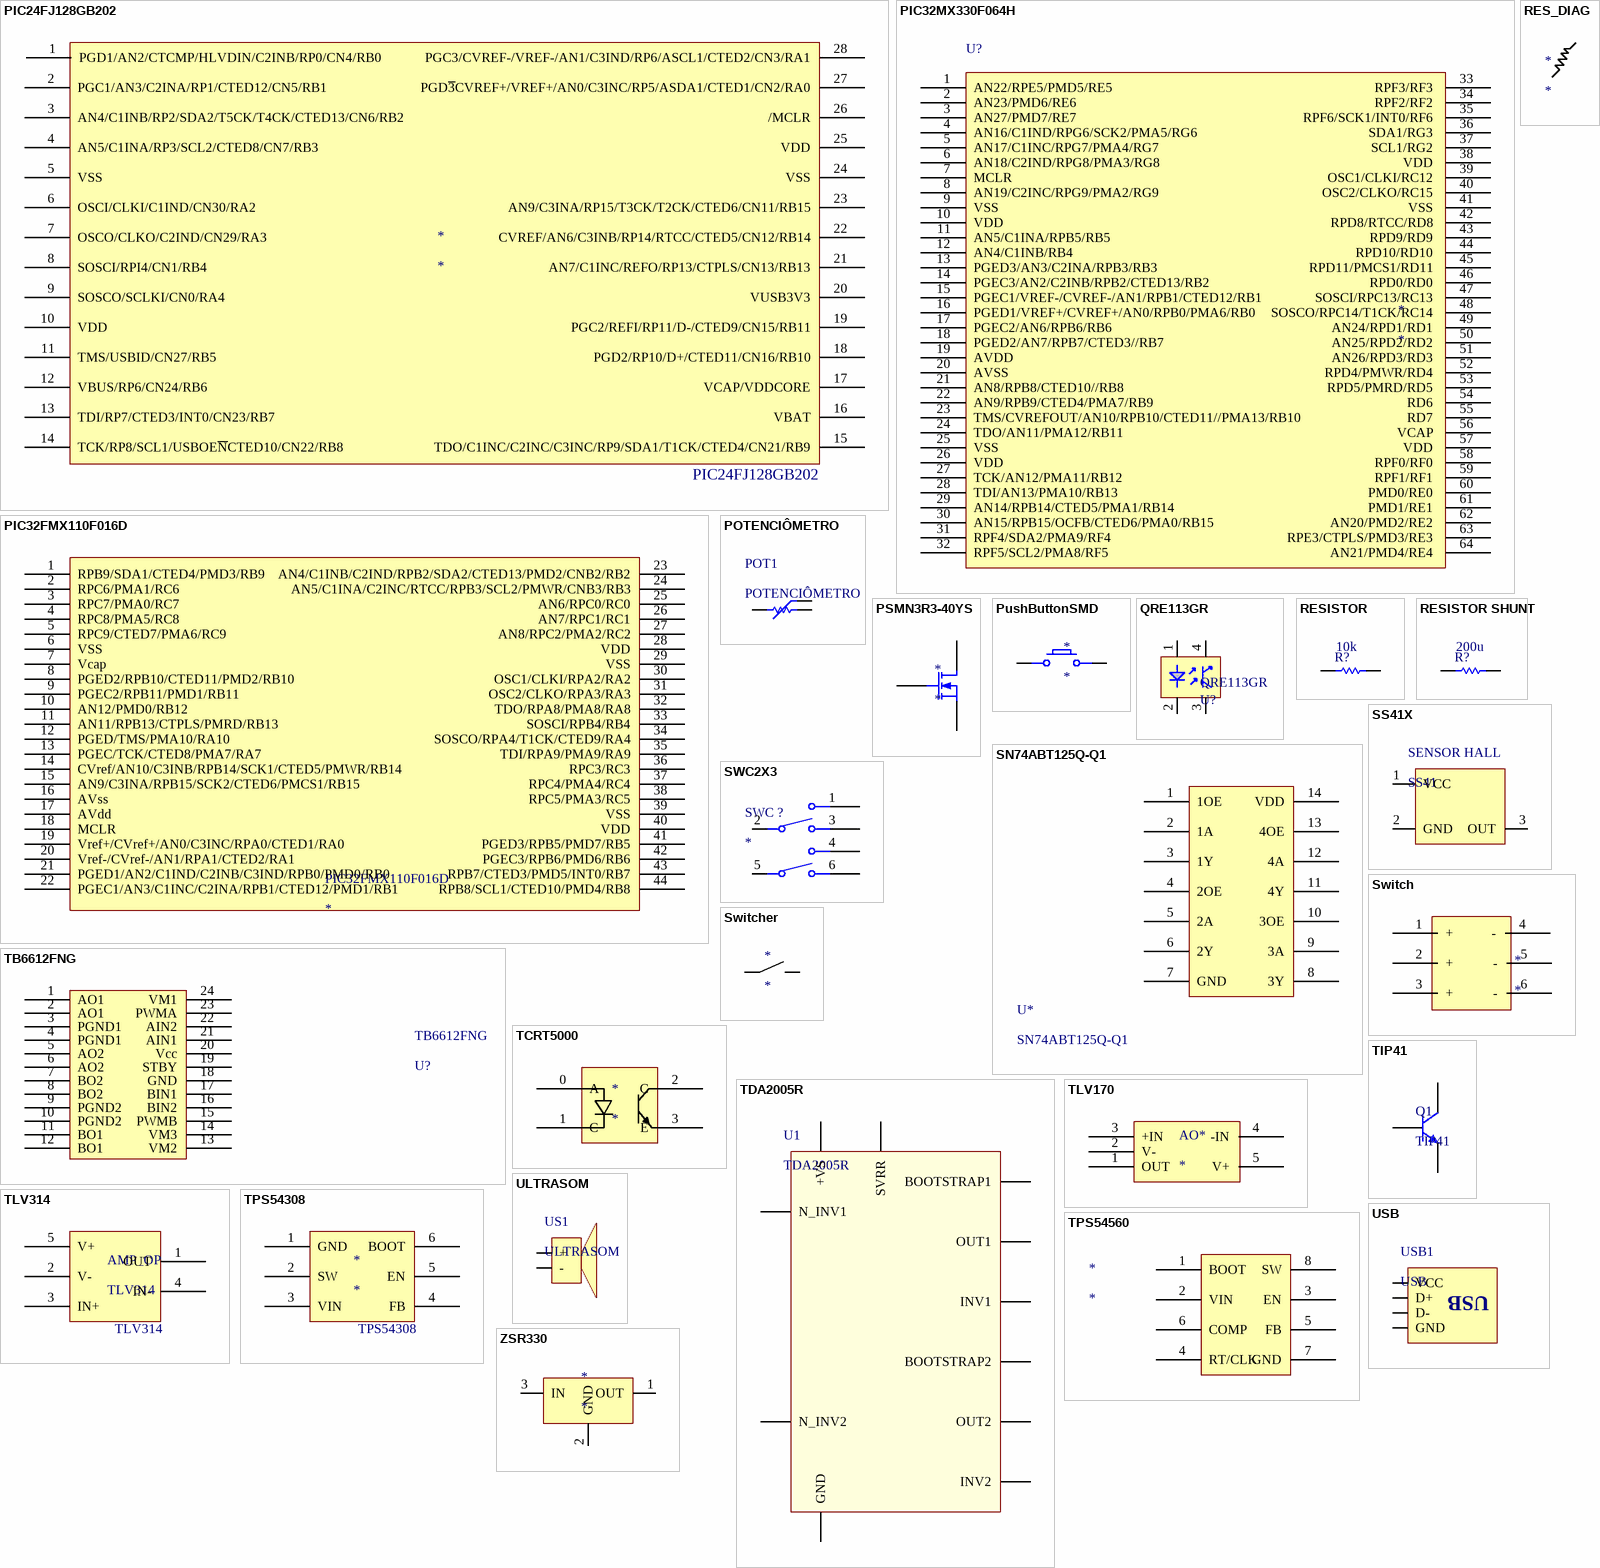
[diagram p3: symbols PIC24FJ128GB202 to ZSR330]

## PIC24FJ128GB202
designator *
footprint QFN-28 (QFN, 28-Leads, Body 6,00x6,00mm, Pitch 0,65mm, Thermal Pad 3,70x3,70mm, IPC Medium Density)
pins: 1 PGD1/AN2/CTCMP/HLVDIN/C2INB/RP0/CN4/RB0, 2 PGC1/AN3/C2INA/RP1/CTED12/CN5/RB1, 3 AN4/C1INB/RP2/SDA2/T5CK/T4CK/CTED13/CN6/RB2, 4 AN5/C1INA/RP3/SCL2/CTED8/CN7/RB3, 5 VSS, 6 OSCI/CLKI/C1IND/CN30/RA2, 7 OSCO/CLKO/C2IND/CN29/RA3, 8 SOSCI/RPI4/CN1/RB4, 9 SOSCO/SCLKI/CN0/RA4, 10 VDD, 11 TMS/USBID/CN27/RB5, 12 VBUS/RP6/CN24/RB6, 13 TDI/RP7/CTED3/INT0/CN23/RB7, 14 TCK/RP8/SCL1/USBOE~{N}CTED10/CN22/RB8, 15 TDO/C1INC/C2INC/C3INC/RP9/SDA1/T1CK/CTED4/CN21/RB9, 16 VBAT, 17 VCAP/VDDCORE, 18 PGD2/RP10/D+/CTED11/CN16/RB10, 19 PGC2/REFI/RP11/D-/CTED9/CN15/RB11, 20 VUSB3V3, 21 AN7/C1INC/REFO/RP13/CTPLS/CN13/RB13, 22 CVREF/AN6/C3INB/RP14/RTCC/CTED5/CN12/RB14, 23 AN9/C3INA/RP15/T3CK/T2CK/CTED6/CN11/RB15, 24 VSS, 25 VDD, 26 /MCLR, 27 PGD~{3}CVREF+/VREF+/AN0/C3INC/RP5/ASDA1/CTED1/CN2/RA0, 28 PGC3/CVREF-/VREF-/AN1/C3IND/RP6/ASCL1/CTED2/CN3/RA1

## PIC32FMX110F016D
designator PIC32FMX110F016D
footprint TQFP80P1140X1140X120-44N (TQFP, 44-Leads, Body 10,00x10,00mm, Pitch 0,80mm, IPC Medium Density)
pins: 1 RPB9/SDA1/CTED4/PMD3/RB9, 2 RPC6/PMA1/RC6, 3 RPC7/PMA0/RC7, 4 RPC8/PMA5/RC8, 5 RPC9/CTED7/PMA6/RC9, 6 VSS, 7 Vcap, 8 PGED2/RPB10/CTED11/PMD2/RB10, 9 PGEC2/RPB11/PMD1/RB11, 10 AN12/PMD0/RB12, 11 AN11/RPB13/CTPLS/PMRD/RB13, 12 PGED/TMS/PMA10/RA10, 13 PGEC/TCK/CTED8/PMA7/RA7, 14 CVref/AN10/C3INB/RPB14/SCK1/CTED5/PMWR/RB14, 15 AN9/C3INA/RPB15/SCK2/CTED6/PMCS1/RB15, 16 AVss, 17 AVdd, 18 MCLR, 19 Vref+/CVref+/AN0/C3INC/RPA0/CTED1/RA0, 20 Vref-/CVref-/AN1/RPA1/CTED2/RA1, 21 PGED1/AN2/C1IND/C2INB/C3IND/RPB0/PMD0/RB0, 22 PGEC1/AN3/C1INC/C2INA/RPB1/CTED12/PMD1/RB1, 23 AN4/C1INB/C2IND/RPB2/SDA2/CTED13/PMD2/CNB2/RB2, 24 AN5/C1INA/C2INC/RTCC/RPB3/SCL2/PMWR/CNB3/RB3, 25 AN6/RPC0/RC0, 26 AN7/RPC1/RC1, 27  AN8/RPC2/PMA2/RC2, 28 VDD, 29 VSS, 30  OSC1/CLKI/RPA2/RA2, 31 OSC2/CLKO/RPA3/RA3, 32 TDO/RPA8/PMA8/RA8, 33 SOSCI/RPB4/RB4, 34 SOSCO/RPA4/T1CK/CTED9/RA4, 35 TDI/RPA9/PMA9/RA9, 36 RPC3/RC3, 37 RPC4/PMA4/RC4, 38 RPC5/PMA3/RC5, 39 VSS, 40 VDD, 41 PGED3/RPB5/PMD7/RB5, 42 PGEC3/RPB6/PMD6/RB6, 43 RPB7/CTED3/PMD5/INT0/RB7, 44 RPB8/SCL1/CTED10/PMD4/RB8
2 alternate drawings of the same symbol

## PIC32MX330F064H
designator *
footprint TSQFP50P1200X1200X120-64N (TSQFP, 64-Leads, Body 10,00x10,00mm, Pitch 0,50mm, IPC Medium Density)
pins: 1 AN22/RPE5/PMD5/RE5, 2 AN23/PMD6/RE6, 3 AN27/PMD7/RE7, 4 AN16/C1IND/RPG6/SCK2/PMA5/RG6, 5 AN17/C1INC/RPG7/PMA4/RG7, 6 AN18/C2IND/RPG8/PMA3/RG8, 7 MCLR, 8 AN19/C2INC/RPG9/PMA2/RG9, 9 VSS, 10 VDD, 11 AN5/C1INA/RPB5/RB5, 12 AN4/C1INB/RB4, 13 PGED3/AN3/C2INA/RPB3/RB3, 14 PGEC3/AN2/C2INB/RPB2/CTED13/RB2, 15 PGEC1/VREF-/CVREF-/AN1/RPB1/CTED12/RB1, 16 PGED1/VREF+/CVREF+/AN0/RPB0/PMA6/RB0, 17 PGEC2/AN6/RPB6/RB6, 18 PGED2/AN7/RPB7/CTED3//RB7, 19 AVDD, 20 AVSS, 21 AN8/RPB8/CTED10//RB8, 22 AN9/RPB9/CTED4/PMA7/RB9, 23 TMS/CVREFOUT/AN10/RPB10/CTED11//PMA13/RB10, 24 TDO/AN11/PMA12/RB11, 25 VSS, 26 VDD, 27 TCK/AN12/PMA11/RB12, 28 TDI/AN13/PMA10/RB13, 29 AN14/RPB14/CTED5/PMA1/RB14, 30 AN15/RPB15/OCFB/CTED6/PMA0/RB15, 31 RPF4/SDA2/PMA9/RF4, 32 RPF5/SCL2/PMA8/RF5, 33 RPF3/RF3 , 34 RPF2/RF2 , 35 RPF6/SCK1/INT0/RF6 , 36 SDA1/RG3 , 37 SCL1/RG2 , 38 VDD , 39 OSC1/CLKI/RC12 , 40 OSC2/CLKO/RC15 , 41 VSS , 42 RPD8/RTCC/RD8 , 43 RPD9/RD9 , 44 RPD10/RD10 , 45 RPD11/PMCS1/RD11 , 46 RPD0/RD0 , 47 SOSCI/RPC13/RC13 , 48 SOSCO/RPC14/T1CK/RC14 , 49 AN24/RPD1/RD1 , 50 AN25/RPD2/RD2 , 51 AN26/RPD3/RD3 , 52 RPD4/PMWR/RD4 , 53 RPD5/PMRD/RD5 , 54 RD6 , 55 RD7 , 56 VCAP , 57 VDD , 58 RPF0/RF0 , 59 RPF1/RF1 , 60 PMD0/RE0 , 61 PMD1/RE1 , 62 AN20/PMD2/RE2 , 63 RPE3/CTPLS/PMD3/RE3 , 64 AN21/PMD4/RE4 
text: U?

## POTENCIÔMETRO
designator POT1
footprint POT_GRANDE
footprint POT_PEQUENO_COMPRIDO
footprint CON3_SEM PINOS
footprint TRIMPOT-RETO
pins: 1, 2, 3

## PSMN3R3-40YS
designator *
footprint SOT669
pins: 1 G, 2 D, 3 S

## PushButtonSMD
designator *
footprint PUSHBUTTON.SMD (SODFL, 2-Leads, Body 3,40x7,98mm, IPC Medium Density)
pins: 1, 2

## QRE113GR
designator QRE113GR, comment U?
footprint GullWing (GullWing, 4-Leads)
pins: 1 Ânodo, 2 Cátodo, 3 Coletor, 4 Emissor

## RES_DIAG
designator *

## RESISTOR
designator R?  value 10k  (hidden comment: RESISTOR)
footprint RES 0805 (0805 (1/8W))
footprint RES 2512 (Low Value Flat Chip Resistor LR2512)
footprint RES 0603
pins: 1, 2

## RESISTOR SHUNT
designator R?  value 200u  (hidden comment: RESISTOR SHUNT)
Resistor Shunt 200uOHMS
footprint RESISTOR SHUNT (Chip Resistor, 2-Leads, Body 10,00x5,25mm, IPC Medium Density)
pins: 1, 2

## SN74ABT125Q-Q1
designator U*
Buffer
footprint SOIC-14 (SOIC, 14-Leads, Body 8.6x3.9mm, Pitch 1.27mm)
pins: 1 1OE, 2 1A, 3 1Y, 4 2OE, 5 2A, 6 2Y, 7 GND, 8 3Y, 9 3A, 10 3OE, 11 4Y, 12 4A, 13 4OE, 14 VDD

## SS41X
designator SENSOR HALL, comment SS41
Sensor magnético
footprint SS40
pins: 1 VCC, 2 GND, 3 OUT

## SWC2X3
designator SWC ?
footprint SWITCH-2x3
pins: 1, 2, 3, 4, 5, 6

## Switch
designator *
pins: 1 +, 2 +, 3 +, 4 -, 5 -, 6 -

## Switcher
designator *
footprint Switcher
footprint Switcher
pins: 1, 2

## TB6612FNG
designator TB6612FNG, comment U?
footprint TSOP65P760X160-24N (TSOP, 24-Leads, Body 8,05x5,65mm, Pitch 0,65mm, IPC Medium Density)
pins: 1 AO1, 2 AO1, 3 PGND1, 4 PGND1, 5 AO2, 6 AO2, 7 BO2, 8 BO2, 9 PGND2, 10 PGND2, 11 BO1, 12 BO1, 13 VM2, 14 VM3, 15 PWMB, 16 BIN2, 17 BIN1, 18 GND, 19 STBY, 20 Vcc, 21 AIN1, 22 AIN2, 23 PWMA, 24 VM1

## TCRT5000
designator *
footprint TCRT5000
pins: 0 A, 1 C, 2 C, 3 E

## TDA2005R
designator U1
footprint Multiwatt11 (TO, Thru-Hole, Vertical, Heatsink Mounted; 11 Bent Staggered Leads; Pitch 1.7 mm)
pins: 1 N_INV1, 2 INV1, 3 SVRR, 4 INV2, 5 N_INV2, 6 GND, 7 BOOTSTRAP2, 8 OUT2, 9 +VS, 10 OUT1, 11 BOOTSTRAP1

## TIP41
designator Q1
Transistor NPN de uso geral
footprint TO220
pins: 1 B, 2 C, 3 E

## TLV170
designator AO*
Amplificador Operacional, Até 36V
footprint SOT23 - 5 Leads (SOT23, 6-Leads, Body 2,90x2,80mm, Pitch 0,95mm, IPC Medium Density)
pins: 1 OUT, 2 V-, 3 +IN, 4 -IN, 5 V+

## TLV314
designator AMP_OP
Amplificador Operacional, 5V
footprint SOT23 - 5 Leads (SOT23, 6-Leads, Body 2,90x2,80mm, Pitch 0,95mm, IPC Medium Density)
pins: 1 OUT, 2 V-, 3 IN+, 4 IN-, 5 V+

## TPS54308
designator *
Regulador chaveado 350KHz, 3A
footprint SOT23 - 6 Leads (SOT23, 6-Leads, Body 2,90x2,80mm, Pitch 0,95mm, IPC Medium Density)
pins: 1 GND, 2 SW, 3 VIN, 4 FB, 5 EN, 6 BOOT

## TPS54560
designator *
Regulador Chaveado 5v
footprint HSOP-8 (tps54560)
pins: 1 BOOT, 2 VIN, 3 EN, 4 RT/CLK, 5 FB, 6 COMP, 7 GND, 8 SW

## ULTRASOM
designator US1
pins: 1 +, 2 -

## USB
designator USB1
Conector USB
footprint USB_B
pins: 1 VCC, 2 D-, 3 D+, 4 GND

## ZSR330
designator *
Regulador Linear de 3.3V
footprint SOT-223 (SOT223, 4-Leads, Body 6,50x7,00mm (avg), Pitch 2,30mm, IPC Medium Density)
pins: 1 OUT, 2 GND, 3 IN